# Altium schematic symbol library stm32u575qii3.SchLib: 1 symbol
Pins are listed as number, name and electrical type; pins without a type are passive.

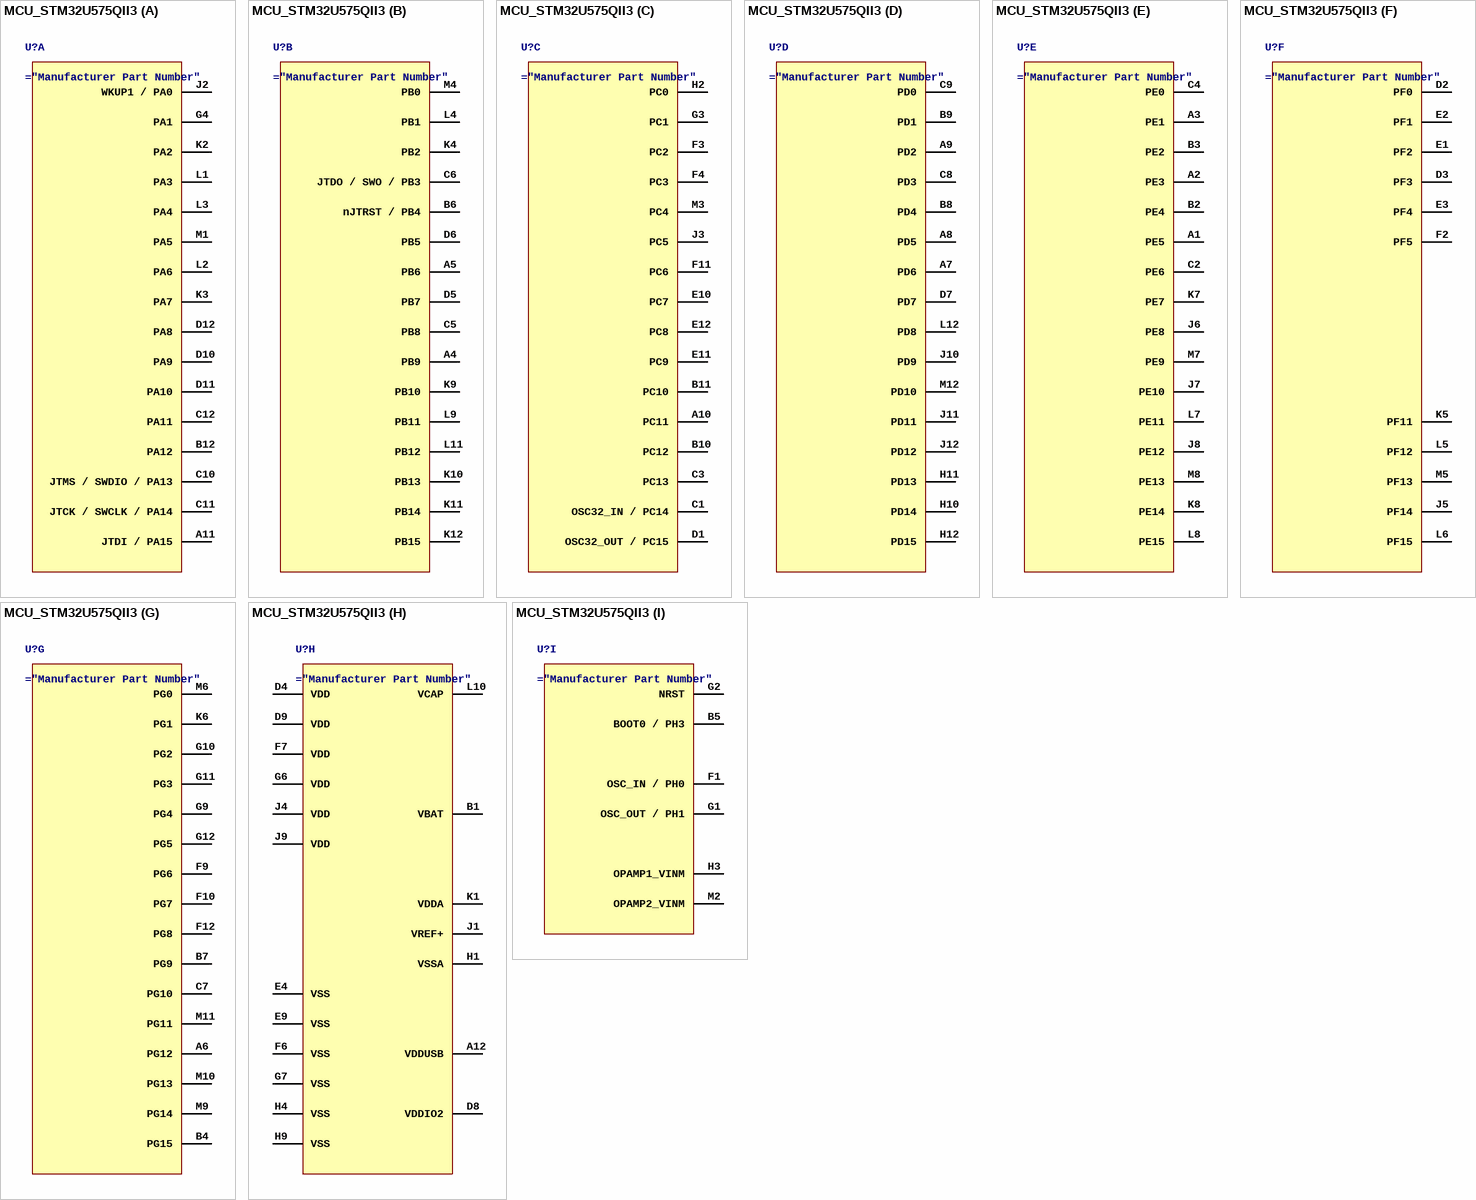
[diagram p0: symbol MCU_STM32U575QII3]

## MCU_STM32U575QII3
designator U?
ARM Cortex-M33 STM32U5 Microcontroller IC 32-Bit 160MHz 2MB (2M x 8) FLASH 132-UFBGA (7x7)
part A pins: A11 JTDI / PA15, B12 PA12, C10 JTMS / SWDIO / PA13, C11 JTCK / SWCLK / PA14, C12 PA11, D10 PA9, D11 PA10, D12 PA8, G4 PA1, J2 WKUP1 / PA0, K2 PA2, K3 PA7, L1 PA3, L2 PA6, L3 PA4, M1 PA5
part B pins: A4 PB9, A5 PB6, B6 nJTRST / PB4, C5 PB8, C6 JTDO / SWO / PB3, D5 PB7, D6 PB5, K4 PB2, K9 PB10, K10 PB13, K11 PB14, K12 PB15, L4 PB1, L9 PB11, L11 PB12, M4 PB0
part C pins: A10 PC11, B10 PC12, B11 PC10, C1 OSC32_IN / PC14, C3 PC13, D1 OSC32_OUT / PC15, E10 PC7, E11 PC9, E12 PC8, F3 PC2, F4 PC3, F11 PC6, G3 PC1, H2 PC0, J3 PC5, M3 PC4
part D pins: A7 PD6, A8 PD5, A9 PD2, B8 PD4, B9 PD1, C8 PD3, C9 PD0, D7 PD7, H10 PD14, H11 PD13, H12 PD15, J10 PD9, J11 PD11, J12 PD12, L12 PD8, M12 PD10
part E pins: A1 PE5, A2 PE3, A3 PE1, B2 PE4, B3 PE2, C2 PE6, C4 PE0, J6 PE8, J7 PE10, J8 PE12, K7 PE7, K8 PE14, L7 PE11, L8 PE15, M7 PE9, M8 PE13
part F pins: D2 PF0, D3 PF3, E1 PF2, E2 PF1, E3 PF4, F2 PF5, J5 PF14, K5 PF11, L5 PF12, L6 PF15, M5 PF13
part G pins: A6 PG12, B4 PG15, B7 PG9, C7 PG10, F9 PG6, F10 PG7, F12 PG8, G9 PG4, G10 PG2, G11 PG3, G12 PG5, K6 PG1, M6 PG0, M9 PG14, M10 PG13, M11 PG11
part H pins: A12 VDDUSB, B1 VBAT, D4 VDD, D8 VDDIO2, D9 VDD, E4 VSS, E9 VSS, F6 VSS, F7 VDD, G6 VDD, G7 VSS, H1 VSSA, H4 VSS, H9 VSS, J1 VREF+, J4 VDD, J9 VDD, K1 VDDA, L10 VCAP
part I pins: B5 BOOT0 / PH3, F1 OSC_IN / PH0, G1 OSC_OUT / PH1, G2 NRST, H3 OPAMP1_VINM, M2 OPAMP2_VINM